# Altium schematic symbol library Switch_Tactile.SchLib: 5 symbols
Pins are listed as number, name and electrical type; pins without a type are passive.

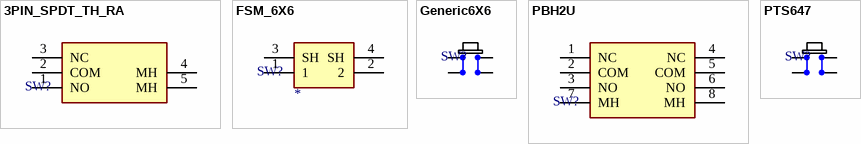
[diagram p0: symbols 3PIN_SPDT_TH_RA to PTS647]

## 3PIN_SPDT_TH_RA
designator SW?, comment ERP_110-4  (value not drawn)
SWITCH SLIDE SPDT 200MA 30V; Manufacturer Part Number 1: 1825232-1; Manufacturer 1: TE; Package: *; Value: *
footprint 3PIN_SPDT_TH_RA
pins: 1 NO, 2 COM, 3 NC, 4 MH, 5 MH

## FSM_6X6
designator SW?, comment ERP_110-4  (value not drawn)
Manufacturer 1: TE; ERP: *; Supplier Part Number 1: *; Supplier 1: *; Manufacturer Part Number 1: *; Package: 6X6; Value: *
footprint FSM_6X6
pins: 1, 2, 3 SH, 4 SH

## Generic6X6
designator SW?
Tactile Switch SPST-NO Top Actuated Surface Mount; Manufacturer 1: C&K; Manufacturer Part Number 1: *; Package: 4.5X4.5
footprint Generic6X6 (Footprint not found)
pins: 1 NO, 2 NO, 3 COM, 4 COM

## PBH2U
designator SW?, comment ERP_110-4  (value not drawn)
Pushbutton Switch DPDT Standard Through Hole, Right Angle; Manufacturer 1: E-Switch; Manufacturer Part Number 1: *; Package: *; Value: *
footprint PBH2U
pins: 1 NC, 2 COM, 3 NO, 4 NC, 5 COM, 6 NO, 7 MH, 8 MH

## PTS647
designator SW?
Tactile Switch SPST-NO Top Actuated Surface Mount; Manufacturer 1: C&K; Manufacturer Part Number 1: *; Package: 4.5X4.5
footprint PTS647 (Footprint not found)
pins: 1 NO, 2 NO, 3 COM, 4 COM